# EAGLE library part ADS1256EVM (library msp432Launchpad)
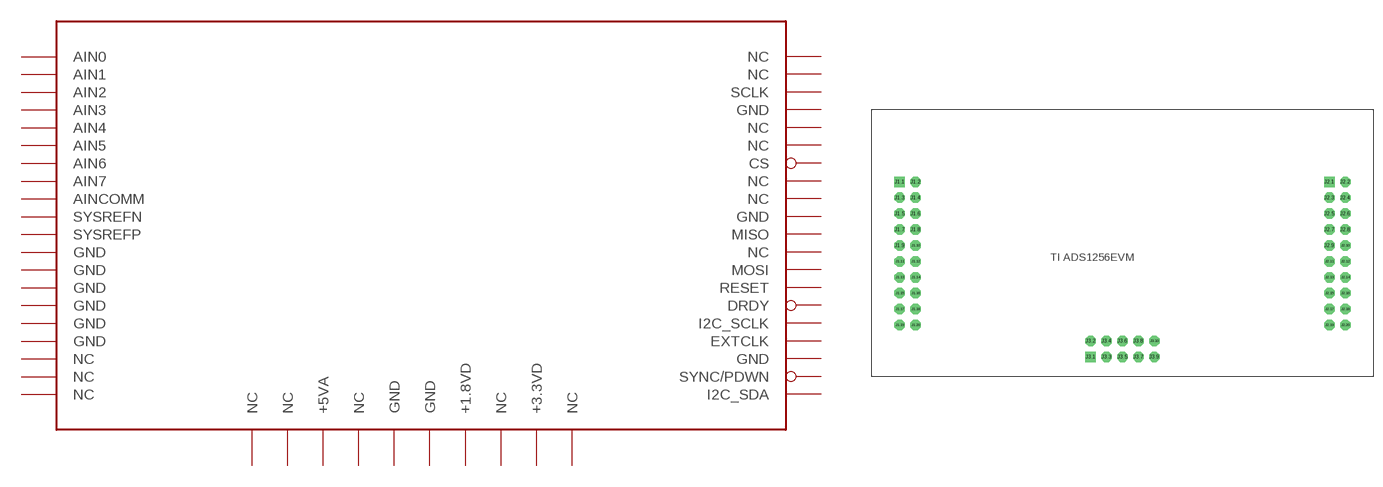
[diagram p1: symbol with the pads of ADS1256EVM; footprint ADS1256EVM]

Designator prefix -

## ADS1256EVM  [ADS1256EVM]
J1.1  AIN0
J1.2  AIN1
J1.3  AIN2
J1.4  AIN3
J1.5  AIN4
J1.6  AIN5
J1.7  AIN6
J1.8  AIN7
J1.9  GND
J1.10  AINCOMM
J1.11  GND
J1.12  NC
J1.13  GND
J1.14  NC
J1.15  GND
J1.16  NC
J1.17  GND
J1.18  SYSREFN
J1.19  GND
J1.20  SYSREFP
J2.1  NC
J2.2  NC
J2.3  SCLK
J2.4  GND
J2.5  NC
J2.6  NC
J2.7  CS
J2.8  NC
J2.9  NC
J2.10  GND
J2.11  MISO
J2.12  NC
J2.13  MOSI
J2.14  RESET
J2.15  DRDY
J2.16  I2C_SCLK
J2.17  EXTCLK
J2.18  GND
J2.19  SYNC/PDWN
J2.20  I2C_SDA
J3.1  NC
J3.2  NC
J3.3  +5VA
J3.4  NC
J3.5  GND
J3.6  GND
J3.7  +1.8VD
J3.8  NC
J3.9  +3.3VD
J3.10  NC

## Footprint ADS1256EVM (pad centres in mm)
drill 1 pad 1.676 square: J1.1 -24.13,13.97; J2.1 44.45,13.97; J3.1 6.35,-13.97
drill 1.1 pad 1.676 octagon: J1.2 -21.59,13.97; J1.3 -24.13,11.43; J1.4 -21.59,11.43
drill 1 pad 1.676 octagon: J1.5 -24.13,8.89; J1.6 -21.59,8.89; J1.7 -24.13,6.35; J1.8 -21.59,6.35; J1.9 -24.13,3.81; J1.10 -21.59,3.81; J1.11 -24.13,1.27; J1.12 -21.59,1.27; J1.13 -24.13,-1.27; J1.14 -21.59,-1.27; J1.15 -24.13,-3.81; J1.16 -21.59,-3.81; J1.17 -24.13,-6.35; J1.18 -21.59,-6.35; J1.19 -24.13,-8.89; J1.20 -21.59,-8.89; J2.2 46.99,13.97; J2.3 44.45,11.43; J2.4 46.99,11.43; J2.5 44.45,8.89; J2.6 46.99,8.89; J2.7 44.45,6.35; J2.8 46.99,6.35; J2.9 44.45,3.81; J2.10 46.99,3.81; J2.11 44.45,1.27; J2.12 46.99,1.27; J2.13 44.45,-1.27; J2.14 46.99,-1.27; J2.15 44.45,-3.81; J2.16 46.99,-3.81; J2.17 44.45,-6.35; J2.18 46.99,-6.35; J2.19 44.45,-8.89; J2.20 46.99,-8.89; J3.2 6.35,-11.43; J3.3 8.89,-13.97; J3.4 8.89,-11.43; J3.5 11.43,-13.97; J3.6 11.43,-11.43; J3.7 13.97,-13.97; J3.8 13.97,-11.43; J3.9 16.51,-13.97; J3.10 16.51,-11.43